# EAGLE library part PCA9557 (library deiring-components)
IO Expander
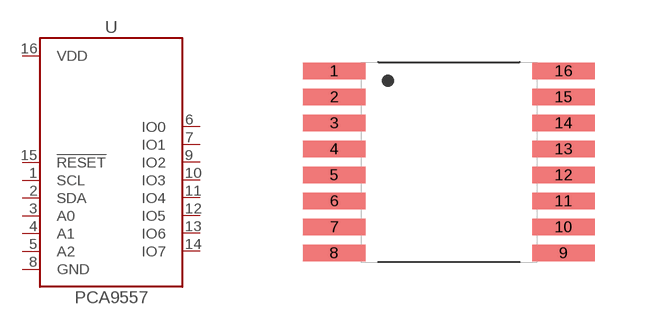
[diagram p30: symbol with the pads of TSSOP-16; footprint TSSOP-16]

Designator prefix U

## PCA9557-TSSOP-16 (LCSC: C141380; MF: NXP Semicon; MPN: PCA9557PW; VALUE: PCA9557)  [TSSOP-16]
1  SCL  in
2  SDA
3  A0  in
4  A1  in
5  A2  in
6  IO0
7  IO1
8  GND  pwr
9  IO2
10  IO3
11  IO4
12  IO5
13  IO6
14  IO7
15  !RESET  out
16  VDD  pwr

## Footprint TSSOP-16 (pad centres in mm)
smd 1.57 x 0.41: 1 -2.87,2.275; 2 -2.87,1.625; 3 -2.87,0.975; 4 -2.87,0.325; 5 -2.87,-0.325; 6 -2.87,-0.975; 7 -2.87,-1.625; 8 -2.87,-2.275; 9 2.87,-2.275; 10 2.87,-1.625; 11 2.87,-0.975; 12 2.87,-0.325; 13 2.87,0.325; 14 2.87,0.975; 15 2.87,1.625; 16 2.87,2.275